# Altium footprint library PUI Audio.PcbLib: 1 footprints
Each footprint in its own frame and in the unit in brackets; x right, y up, seen from the top. Pads: shape width x height; smd on the part's side, far side on the other; paste and mask are expansions set on the pad; w line width, h text height; cw(c..) or ccw(c..) is an arc to the next point about the centre after c.
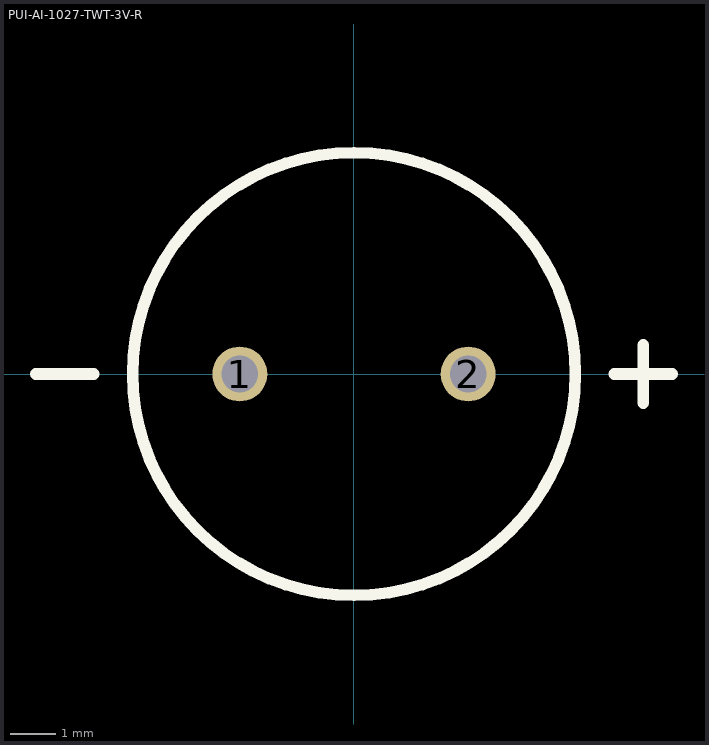
[diagram p0: the footprint, top view; thin cyan lines are the x and y axes]

## PUI-AI-1027-TWT-3V-R [mm] "BUZZER MAGNETIC 3V 9.5MM RADIAL"
height 0.127
pads (2):
  round 1.2 hole 0.8: 1(-2.5,0) 2(2.5,0)
Top Overlay:
  circle w0.254: c0,0 r4.85
  lines w0.254: -6.97,0 -5.7,0 ; 5.7,0 6.97,0 ; 6.335,-0.635 6.335,0.635
3D body: height 5.05, standoff -4.5, extent -5.952,-4.75 4.75,4.75